# EAGLE library part TLV61048 (library texas)
Output-Voltage Non-Synchronous Boost Converter
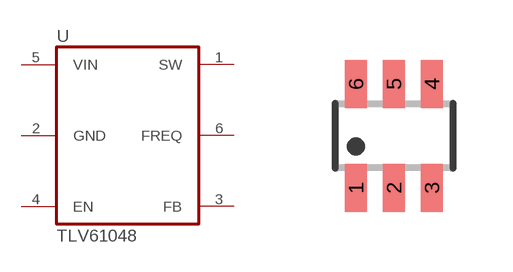
[diagram p130: symbol with the pads of SOT23-6; footprint SOT23-6]

Designator prefix U

## TLV61048  [SOT23-6]
1  SW  out
2  GND  in
3  FB  in
4  EN
5  VIN  in
6  FREQ  pas

## Footprint SOT23-6 (pad centres in mm)
SOT-23 - DBV 0.95 mm pitch
smd 0.55 x 1.2: 1 -0.95,-1.3; 2 0,-1.3; 3 0.95,-1.3; 4 0.95,1.3; 5 0,1.3; 6 -0.95,1.3